# Altium integrated library libNico.IntLib: 48 symbols
Pins are listed as number, name and electrical type; pins without a type are passive.

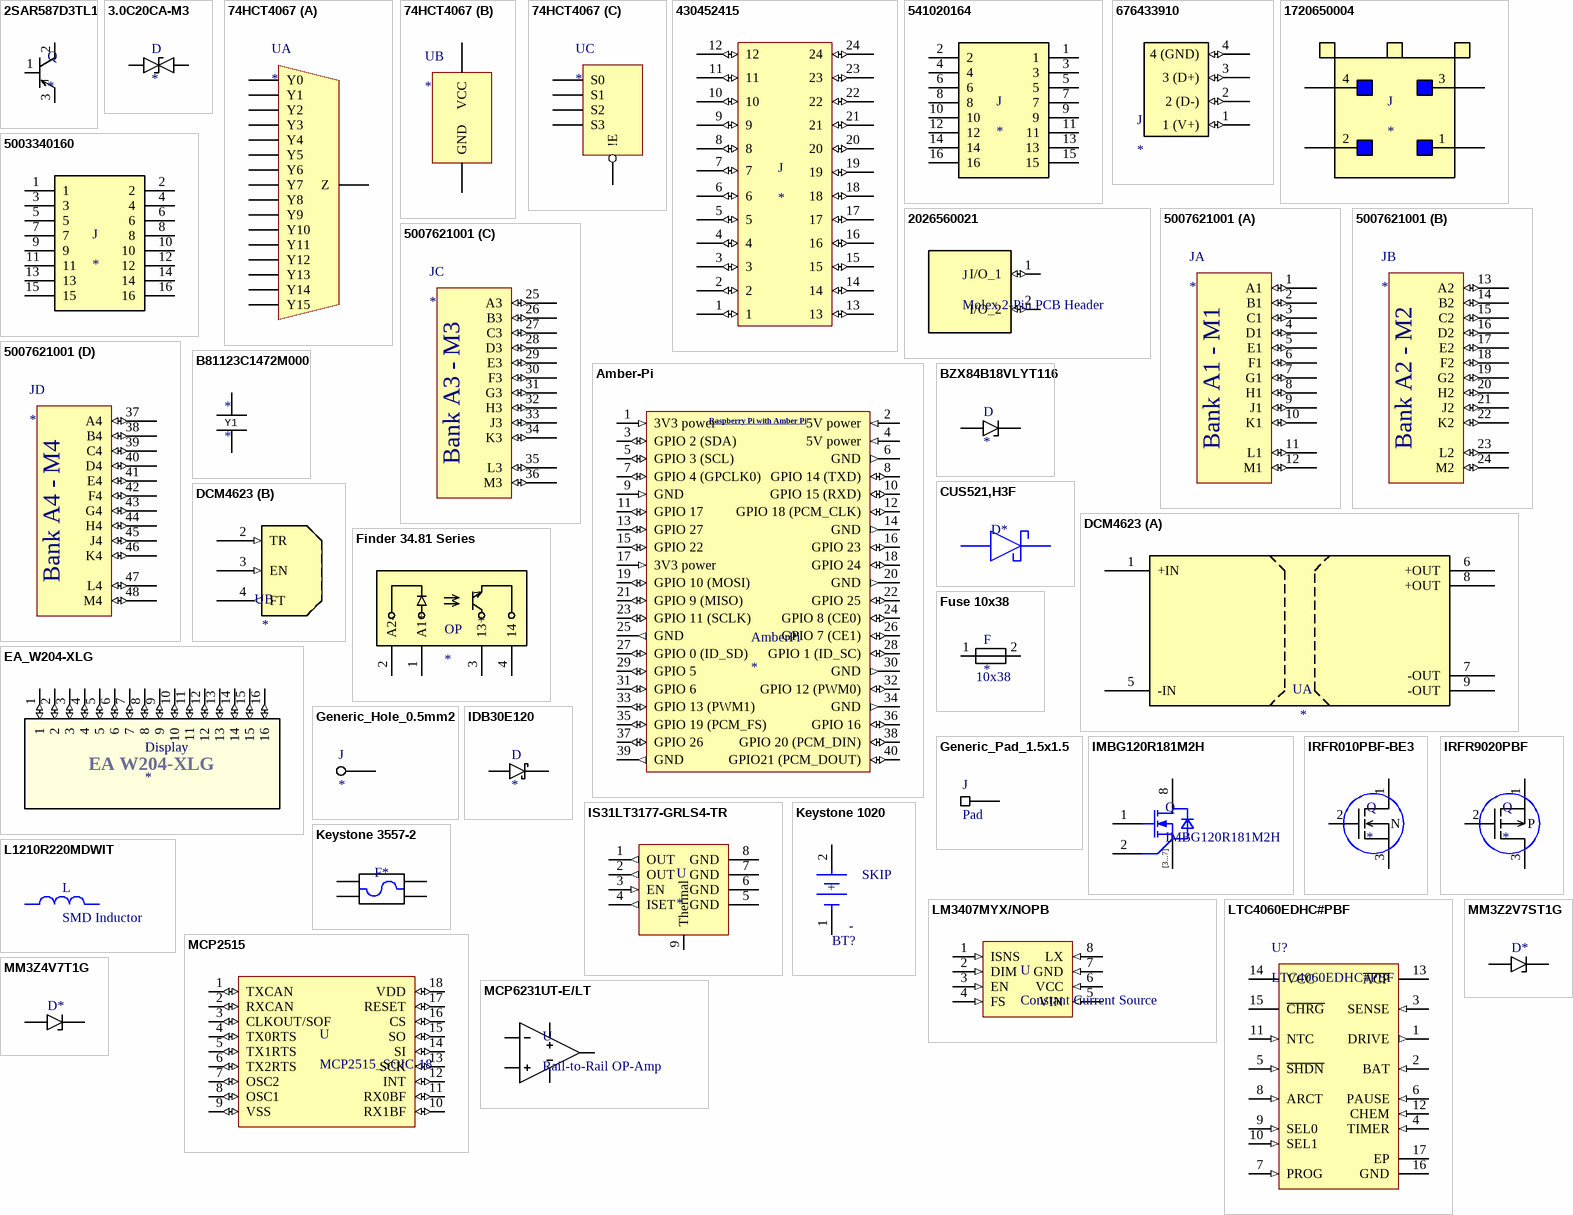
[diagram p0: symbols 2SAR587D3TL1 to MM3Z4V7T1G]

## 2SAR587D3TL1
designator Q
Power Transistor PNP 120V 3A; ComponentLink1Description: Octopart; ComponentLink1URL: https://octopart.com/2sar587d3tl1-rohm-100746648?r=sp
footprint DPAK230P1000X230-3M (D-PAK, 3-Pads, Body 6,30x6,76mm (max), IPC Low Density)
pins: 1 B, 2 C, 3 E

## 3.0C20CA-M3
designator D
Vishay 3.0C20CA-M3 / Bidirect. TVS, 20V, 3kW; ComponentLink1Description: Octopart; ComponentLink1URL: https://octopart.com/3.0c20ca-m3%2Fh-vishay-133857999?r=sp
footprint 3.0C20CA-M3 (DO-214AB-2)
pins: 1, 2

## 74HCT4067
designator U
Nexperia 74HCT4067 / 16-channel analog multiplexer; ComponentLink1Description: Octopart; ComponentLink1URL: https://octopart.com/74hct4067pw%2C118-nexperia-78737616?r=sp
footprint 74HCT4067PW (TSSOP-24)
part A pins: 1 Z, 2 Y7, 3 Y6, 4 Y5, 5 Y4, 6 Y3, 7 Y2, 8 Y1, 9 Y0, 16 Y15, 17 Y14, 18 Y13, 19 Y12, 20 Y11, 21 Y10, 22 Y9, 23 Y8
part B pins: 12 GND, 24 VCC
part C pins: 10 S0, 11 S1, 13 S3, 14 S2, 15 !E

## 430452415
designator J
Micro-Fit 3.0 Vertical Header, 3.00mm Pitch, Dual Row, 24 Circuits, with PCB Press-fit Metal Retention Clip, Tin, Glow-Wire Capable, Black, Tape and Reel; ComponentLink1Description: Molex; ComponentLink1URL: https://www.molex.com/molex/products/part-detail/pcb_headers/0430452415
footprint 430452415 (Micro-Fit 3.0 Vertical Header, 3.00mm Pitch, Dual Row, 24 Circuits, with PCB Press-fit Metal Retention Clip, Tin, Glow-Wire Capable, Black, Tape and Reel)
pins: 1 (io), 2 (io), 3 (io), 4 (io), 5 (io), 6 (io), 7 (io), 8 (io), 9 (io), 10 (io), 11 (io), 12 (io), 13 (io), 14 (io), 15 (io), 16 (io), 17 (io), 18 (io), 19 (io), 20 (io), 21 (io), 22 (io), 23 (io), 24 (io)

## 541020164
designator J
0.50mm Pitch SlimStack Receptacle, Surface Mount, Dual Row, Vertical, 2.50mm Stacking Height, Gold Plating with Nickel Barrier, 16 Circuits
footprint 541020164 (0.50mm Pitch SlimStack Receptacle, Surface Mount, Dual Row, Vertical, 2.50mm Stacking Height, Gold Plating with Nickel Barrier, 16 Circuits)
pins: 1, 2, 3, 4, 5, 6, 7, 8, 9, 10, 11, 12, 13, 14, 15, 16

## 676433910
designator J
Universal Serial Bus (USB) Shielded I/O Receptacle, Right-Angle, Type A, High-Temperature White Nylon, Gold (Au) Flash, PCB Thickness 1.60mm, without Upper Flange, for IR Reflow Process, Lead-Free; ComponentLink1Description: Molex; ComponentLink1URL: https://www.molex.com/molex/products/part-detail/io_connectors/0676433910
footprint 676433910 (Universal Serial Bus (USB) Shielded I/O Receptacle, Right-Angle, Type A, High-Temperature White Nylon, Gold (Au) Flash, PCB Thickness 1.60mm, without Upper Flange, for IR Reflow Process, Lead-Free)
pins: 1 1 (V+) (io), 2 2 (D-) (io), 3 3 (D+) (io), 4 4 (GND) (io)

## 1720650004
designator J
Molex Mega-Fit Vertical Header, Through Hole, 5.70mm Pitch, Dual Row, 4 Circuits, 0.38µm Gold (Au) Plating, Glow-Wire Capable, Black
footprint 1720650004 (Molex Mega-Fit Vertical Header, Through Hole, 5.70mm Pitch, Dual Row, 4 Circuits, 0.38µm Gold (Au) Plating, Glow-Wire Capable, Black)
pins: 1, 2, 3, 4

## 2026560021
designator J, comment Molex 2-Pin PCB Header
Molex Pico-EZmate and Pico-EZmate Slim Wire-to-Board PCB Header
footprint 2026560021 (Molex Pico-EZmate and Pico-EZmate Slim Wire-to-Board PCB Header)
pins: 1 I/O_1 (io), 2 I/O_2 (io)

## 5003340160
designator J
0.50mm Pitch SlimStack Plug, Surface Mount, Dual Row, Vertical, 2.50mm Stack Height, 16 Circuits
footprint 5003340160 (0.50mm Pitch SlimStack Plug, Surface Mount, Dual Row, Vertical, 2.50mm Stack Height, 16 Circuits)
pins: 1, 2, 3, 4, 5, 6, 7, 8, 9, 10, 11, 12, 13, 14, 15, 16

## 5007621001
designator J
Molex 5007621001 / 2.50mm, 3.50mm, 3.70mm CMC Header, Sealed, Right-Angle, 48 Circuits, Black; ComponentLink1Description: Molex; ComponentLink1URL: https://www.molex.com/en-us/products/part-detail/5007621001
footprint 5007621001 (2.50mm, 3.50mm, 3.70mm CMC Header, Sealed, Right-Angle, 48 Circuits, Black)
part A pins: 1 A1 (io), 2 B1 (io), 3 C1 (io), 4 D1 (io), 5 E1 (io), 6 F1 (io), 7 G1 (io), 8 H1 (io), 9 J1 (io), 10 K1 (io), 11 L1 (io), 12 M1 (io)
part B pins: 13 A2 (io), 14 B2 (io), 15 C2 (io), 16 D2 (io), 17 E2 (io), 18 F2 (io), 19 G2 (io), 20 H2 (io), 21 J2 (io), 22 K2 (io), 23 L2 (io), 24 M2 (io)
part C pins: 25 A3 (io), 26 B3 (io), 27 C3 (io), 28 D3 (io), 29 E3 (io), 30 F3 (io), 31 G3 (io), 32 H3 (io), 33 J3 (io), 34 K3 (io), 35 L3 (io), 36 M3 (io)
part D pins: 37 A4 (io), 38 B4 (io), 39 C4 (io), 40 D4 (io), 41 E4 (io), 42 F4 (io), 43 G4 (io), 44 H4 (io), 45 J4 (io), 46 K4 (io), 47 L4 (io), 48 M4 (io)
part A text: Bank A1 - M1
part B text: Bank A2 - M2
part C text: Bank A3 - M3
part D text: Bank A4 - M4

## Amber-Pi
designator AmberPi
RasPi with Amber-Pi, ONLY FOOTPRINT; ComponentLink1Description: WE-Online; ComponentLink1URL: https://www.we-online.de/katalog/de/AMBER_PI_EVAL-KITS#2609017281001
footprint AMBERPI (WE Elektronik AmberPi Kit flipped)
pins: 1 3V3 power (in), 2 5V power (in), 3 GPIO 2 (SDA) (io), 4 5V power (in), 5 GPIO 3 (SCL) (io), 6 GND (out), 7 GPIO 4 (GPCLK0) (io), 8 GPIO 14 (TXD) (io), 9 GND (in), 10 GPIO 15 (RXD) (io), 11 GPIO 17 (io), 12 GPIO 18 (PCM_CLK) (io), 13 GPIO 27 (io), 14 GND (out), 15 GPIO 22 (io), 16 GPIO 23 (io), 17 3V3 power (in), 18 GPIO 24 (io), 19 GPIO 10 (MOSI) (io), 20 GND (out), 21 GPIO 9 (MISO) (io), 22 GPIO 25 (io), 23 GPIO 11 (SCLK) (io), 24 GPIO 8 (CE0) (io), 25 GND (out), 26 GPIO 7 (CE1) (io), 27 GPIO 0 (ID_SD) (io), 28 GPIO 1 (ID_SC) (io), 29 GPIO 5 (io), 30 GND (out), 31 GPIO 6 (io), 32 GPIO 12 (PWM0) (io), 33 GPIO 13 (PWM1) (io), 34 GND (out), 35 GPIO 19 (PCM_FS) (io), 36 GPIO 16 (io), 37 GPIO 26 (io), 38 GPIO 20 (PCM_DIN) (io), 39 GND (out), 40 GPIO21 (PCM_DOUT) (io)
text: Raspberry Pi with Amber Pi

## B81123C1472M000
designator *
EPCOS/TDK B81123C1472M000 / Class Y1 Capacitor; Capacitance: 4.7 nF; DC Voltage: 3 kV; AC Voltage: 500 VAC; Safety Class: Y1
footprint B81123C1472M000 (Class Y1 Capacitor)
pins: 1, 2

## BZX84B18VLYT116
designator D
ROHM BZX84B18VLYT116 / Z-Diode, 18V; Vr: 18V; ComponentLink1Description: Octopart; ComponentLink1URL: https://octopart.com/bzx84b18vlyt116-rohm-111546287?r=sp
footprint SOT-23-3 (SOT23, 3-Leads, Body 2,90x2,40mm, Pitch 0,95mm, IPC Medium Density)
pins: 1 A, 3 C

## CUS521,H3F
designator D*  (value not drawn)
Toshiba CUS521,H3F / Shottky-Diode / Forward: 390mV, Reverse: 30V; ComponentLink1Description: Octopart; ComponentLink1URL: https://octopart.com/cus521%2Ch3f-toshiba-26712463?r=sp
footprint SOD-323-2 (SODFL, 2-Leads, Body 1,30x2,50mm, IPC Low Density)
pins: 1C C, 2A A

## DCM4623
designator U
VICOR DCM® DC-DC Converter Module; ComponentLink1Description: VICOR; ComponentLink1URL: https://www.vicorpower.com/dc-dc/isolated-regulated/dcm; Model: *
footprint DCM4623 (Vicor DCM4623 Module)
part A pins: 1 +IN (power), 5 -IN, 6 +OUT (power), 7 -OUT, 8 +OUT (power), 9 -OUT
part B pins: 2 TR (in), 3 EN (in), 4 FT (out)

## EA_W204-XLG
designator Display
Display
footprint EA_W204-XLG (Display)
pins: 1 (io), 2 (io), 3 (io), 4 (io), 5 (io), 6 (io), 7 (io), 8 (io), 9 (io), 10 (io), 11 (io), 12 (io), 13 (io), 14 (io), 15 (io), 16 (io)
text: EA W204-XLG

## Finder 34.81 Series
designator OP
Opto-Isolator / Finder 34.81 series; ComponentLink1Description: Finder; ComponentLink1URL: https://www.findernet.com/de/deutschland/series/serie-34-schmales-steck-printrelais-emr-oder-ssr-01-2-6a/
footprint Finder 34.81 Series (Opto-Isolator)
pins: 1 A1+, 2 A2-, 3 13+, 4 14

## Fuse 10x38
designator F  Format: 10x38
Voltage: *; Current: *
footprint Fuse Holder 10x38
pins: 1, 2

## Generic_Hole_0.5mm2
designator J
Hole 0.5 mm2
footprint Generic_Hole_0.5mm2 (0.5 mm2 Hole)
pins: H Hole

## Generic_Pad_1.5x1.5
designator J, comment Pad
Pad 1.5mm x 1.5mm
footprint Generic_Pad_1.5x1.5 (1.5mm x 1.5mm Pad)
pins: P Pad

## IDB30E120
designator D
Infineon IDB30E120 / 1200V, 30A @ 1.7V; ComponentLink1Description: Octopart; ComponentLink1URL: https://octopart.com/idb30e120atma1-infineon-21386241?r=sp; Vf: 1.7V
footprint Infineon IDB30E120 (D2-PAK, 3-Pads, Body 7,82x8,51mm (max), IPC Medium Density)
pins: 2 C, 3 A

## IMBG120R181M2H
designator Q
Infineon IMBG120R181M2HXTMA1 / CoolSiC, 1200V, 15A, 181.4mOhm; ComponentLink1Description: Octopart; ComponentLink1URL: https://octopart.com/imbg120r181m2hxtma1-infineon-143244067?r=sp; Package Reference: PG-TO263-7-12
footprint TO127P1500X470-8N-2-V1 (TO,1.27mm pitch;7 pin,15.00mm L X 9.25mm W X 4.70mm H body)
pins: 1 GATE, 2 SENSE, 3 SOURCE1, 4 SOURCE2, 5 SOURCE3, 6 SOURCE4, 7 SOURCE5, 8 DRAIN
text: [3...7]

## IRFR010PBF-BE3
designator Q
Vishay IRFR010PBF-BE3 / N-Channel MOSFET, 50V, 8.2A; ComponentLink1Description: Octopart; ComponentLink1URL: https://octopart.com/irfr010pbf-be3-vishay-113152001?r=sp
footprint DPAK-(TO-252) (D-PAK, 3-Pads, Body 6,47x6,54mm (max), IPC Low Density); pin to pad 1>2_Tab 2>1_Dot
pins: 1 D, 2 G, 3 S
text: N

## IRFR9020PBF
designator Q
Vishay IRFR9020PBF / P-Channel MOSFET, 50V, 9.9A; ComponentLink1Description: Octopart; ComponentLink1URL: https://octopart.com/irfr9020pbf-vishay-39555158?r=sp
footprint DPAK-(TO-252) (D-PAK, 3-Pads, Body 6,47x6,54mm (max), IPC Low Density); pin to pad 1>3 2>1_Dot 3>2_Tab
pins: 1 S, 2 G, 3 D
text: P

## IS31LT3177-GRLS4-TR
designator U
LED-Beleuchtungstreiber 10 to 200mA Constant Current LED driver with 1kHz PWM dimming pin, SOP-8-EP (4.9mm x 6.0mm), T&R; ComponentLink1Description: Octopart; ComponentLink1URL: https://octopart.com/is31lt3177-grls4-tr-issi-105847754?r=sp
footprint SOP127P600X170_HS-9M (SOP, 8-Leads, Body 4,90x3,90mm, Pitch 1,27mm, Thermal Pad 2,29x2,29mm, IPC Low Density)
pins: 1 OUT (out), 2 OUT (out), 3 EN (in), 4 ISET (out), 5 GND, 6 GND, 7 GND, 8 GND, 9 Thermal

## Keystone 1020
designator BT?  Voltage: SKIP
BATT HOLDER BATTERY AAA SMD; Part Number: 1020; Manufacturer: Keystone; helpURL: https://upverter.com/upn/revision/aeadfed39ba6ac98/; ComponentLink2Description: Datasheet; Temperature: -50°C to +145°C; Package: BT_HLDR_SMT; Supplier 2: Mouser; Price: 1.62889830371; Supplier 1: Digi-Key; ComponentLink1URL: https://upverter.com/upn/revision/aeadfed39ba6ac98/; Supplier Part Number 2: 534-1020; Supplier Part Number 1: 36-1020-ND; ComponentLink1Description: Upverter; ComponentLink2URL: http://www.keyelco.com/product-pdf.cfm?p=934; RoHS: TRUE; Mouser Part Number: 534-1020; Temperature Range High: +145°C; Digikey Description: BATT HOLDER BATTERY AAA SMD; Digikey Part Number: 36-1020-ND; Lead Free: yes; Temperature Range Low: -50°C
footprint Keystone_1020_0
pins: 1 -, 2 +

## Keystone 3557-2
designator F*  (value not drawn)
Keystone 3557-2 / Fuse Holder; ComponentLink1Description: Octopart; ComponentLink1URL: https://octopart.com/3557-2-keystone-850400?r=sp
footprint Keystone 3557-2 (Fuse Holder)
pins: I1, I2, O1, O2

## L1210R220MDWIT
designator L, comment SMD Inductor
Ind Chip High Current Unshielded Wirewound 22uH 20% 100kHz Ferrite 780mA 1210 T/R; ComponentLink1Description: Octopart; ComponentLink1URL: https://octopart.com/l1210r220mdwit-kemet-8043287?r=sp
footprint CHIP_1210_3225 (Chip Inductor, 2-Leads, Body 3,20x2,50mm, IPC Low Density)
pins: 1, 2

## LM3407MYX/NOPB
designator U, comment Constant Current Source
LM3407 350-mA, Constant Current Output Floating Buck Switching Converter / for High-Power LEDs; ComponentLink1Description: Octopart; ComponentLink1URL: https://octopart.com/lm3407myx%2Fnopb-texas+instruments-24846104?r=sp
footprint TSOP65P490X110_HS-9M (TSOP, 8-Leads, Body 3,00x3,00mm, Pitch 0,65mm, Thermal Pad 2,00x1,88mm, IPC Low Density)
pins: 1 ISNS (in), 2 DIM (in), 3 EN (in), 4 FS (in), 5 VIN (in), 6 VCC (in), 7 GND (in), 8 LX (in)

## LTC4060EDHC#PBF
designator U?
Standalone Linear NiMH / NiCd Fast Battery Charger, 4.5 to 10 V Vin, 16-pin SON (DHC-16), -40 to 85 degC, Pb-Free; Manufacturer: Linear Technology; Float Voltage: Adj; Vin Min(V): 4.5; Max Charge Current(A): 2; Vin Max(V): 10; Number of Cells: 1 to 4; Battery Chemistry: NiCd, NiMH, Lead Acid; PackageVersion: Jun-10; PartNumber: LTC4060EDHC#PBF; ComponentLink3Description: Package Specification; ComponentLink1URL: http://www.linear.com/; ComponentLink1Description: Manufacturer URL; ComponentLink2URL: http://cds.linear.com/docs/en/datasheet/4060f.pdf; Code_JEDEC: MO-229; Type of Charger: Linear; ComponentLink2Description: Datasheet; Mounting Technology: Surface Mount; PackageReference: DHC-16; PackageDescription: 16-Pin Plastic DFN, Body 5 x 3 mm, Pitch 0.5 mm; ComponentLink3URL: http://cds.linear.com/docs/en/packaging/DFN_16_05-08-1706.pdf; RoHS: TRUE
footprint LT-DHC-16_V (SON, 16-Leads, Body 5x3mm, Pitch 0.5mm, Thermal Pad 4.4X1.65mm)
pins: 1 DRIVE (out) "Base Drive Output for the External PNP Pass Transistor. Provides a controlled sink current that drives the base of the PNP. This pin has current limit protection for the LTC4060.", 2 BAT (in) "Battery Voltage Sense Input Pin. The LTC4060 uses the voltage on this pin to monitor battery voltage and control the battery current during charging. An internal resistor divider is connected to this pin which is (See Datasheet)", 3 SENSE (in) "Charge Current Sense Node Input. Current from VCC passes through the internal current sense resistor and reappears at the SENSE pin to supply current to the external PNP emitter. The PNP collector provides charge current (See Datasheet)", 4 TIMER (in) "Charge Timer Input. A capacitor connected between TIMER and GND along with a resistor connected from PROG to GND programs the charge cycle timing limits.", 5 ~{SHDN} (in) "Active Low Shutdown Control Logic Input. When pulled low, charging stops and the LTC4060 supply current is minimized.", 6 PAUSE (in) "Pause Enable Logic Input. The charger can be paused, turning off the charge current, disabling termination and stopping the timer when this pin is high. A low level will resume the charging process.", 7 PROG (in) "Charge Current Programming Input. Provides a virtual reference of 1.5V for an external resistor (RPROG) tied between this pin and GND that programs the battery charge current. The fast charge current will be 930 times the (See Datasheet)", 8 ARCT (in) "Autorecharge Threshold Programming Input. When the average cell voltage falls below this threshold, charging is reinitiated. The voltage on this pin is conveniently derived by using two series PROG pin resistors and (See Datasheet)", 9 SEL0 (in) "Number of Cells Selection Logic Input. For single cell, connect both pins to GND. For two cells, connect SEL1 to GND and SEL0 to VCC. For three cells, SEL1 connects to VCC and SEL0 to GND. For four cells, connect both pins (See Datasheet)", 10 SEL1 (in) "Number of Cells Selection Logic Input. For single cell, connect both pins to GND. For two cells, connect SEL1 to GND and SEL0 to VCC. For three cells, SEL1 connects to VCC and SEL0 to GND. For four cells, connect both pins (See Datasheet)", 11 NTC (in) "Battery Temperature Input. An external NTC thermistor network may be connected to NTC to provide temperature-based charge qualification. Connecting NTC to GND inhibits this function.", 12 CHEM (in) "Battery Chemistry Selection Logic Input. When connected to a high level NiCd fast charge -deltaV termination parameters are used. A low level selects NiMH parameters.", 13 ~{ACP} (hiz) "Open-Drain Power Supply Status Output. When VCC is greater than the undervoltage lockout threshold, the A\C\P\ pin will pull to ground. Otherwise the pin is high impedance. This output is capable of driving an LED.", 14 VCC (power) "Power Input. This pin can be bypassed to ground with a capacitance of 1uF.", 15 ~{CHRG} (hiz) "Open-Drain Charge Indicator Status Output. The LTC4060 indicates it is providing charge to the battery by driving this pin to GND. If charging is paused or suspended due to abnormal battery temperature, the pin remains (See Datasheet)", 16 GND (power) "Ground. This pin provides a ground for the internal voltage reference and other circuits. All voltage thresholds are referenced to this pin.", 17 EP (power) "Thermal Connection. Internally connected to GND. Solder to PCB ground for optimum thermal performance."

## MCP2515
designator U, comment MCP2515_SOIC-18
Stand-Alone CAN Controller with SPI Interface; ComponentLink1Description: Microchip; ComponentLink1URL: https://www.microchip.com/wwwproducts/en/en010406
footprint SOIC127P1030X265-18N (SOIC, 18-Leads, Body 11,55x7,50mm, Pitch 1,27mm, IPC Medium Density)
pins: 1 TXCAN (io), 2 RXCAN (io), 3 CLKOUT/SOF (io), 4 TX0RTS (io), 5 TX1RTS (io), 6 TX2RTS (io), 7 OSC2 (io), 8 OSC1 (io), 9 VSS (io), 10 RX1BF (io), 11 RX0BF (io), 12 INT (io), 13 SCK (io), 14 SI (io), 15 SO (io), 16 CS (io), 17 RESET (io), 18 VDD (io)

## MCP6231UT-E/LT
designator U, comment Rail-to-Rail OP-Amp
MCP6231 Series 6 V 300 kHz Rail-to-Rail I/O Operational Amplifier - SC-70-5; ComponentLink1Description: Octopart; ComponentLink1URL: https://octopart.com/mcp6231ut-e%2Flt-microchip-419329?r=sp
footprint 5-Lead_SOT_SC-70 (SOT23, 5-Leads, Body 2,00x2,10mm, Pitch 0,65mm, IPC Medium Density)
pins: 1 Vin+, 2 VSS, 3 Vin-, 4 Vout, 5 VDD

## MM3Z2V7ST1G
designator D*  (value not drawn)
onsemi MM3Z2V7ST1G / Z-Diode, 2,7V; ComponentLink1Description: Octopart; ComponentLink1URL: https://octopart.com/mm3z4v7t1g-onsemi-331144?r=sp
footprint SOD-323-2 (SODFL, 2-Leads, Body 1,30x2,50mm, IPC Low Density)
pins: 1C C, 2A A

## MM3Z4V7T1G
designator D*  (value not drawn)
onsemi MM3Z4V7T1G / Z-Diode, 4,7V; ComponentLink1Description: Octopart; ComponentLink1URL: https://octopart.com/mm3z4v7t1g-onsemi-331144?r=sp
footprint SOD-323-2 (SODFL, 2-Leads, Body 1,30x2,50mm, IPC Low Density)
pins: 1C C, 2A A

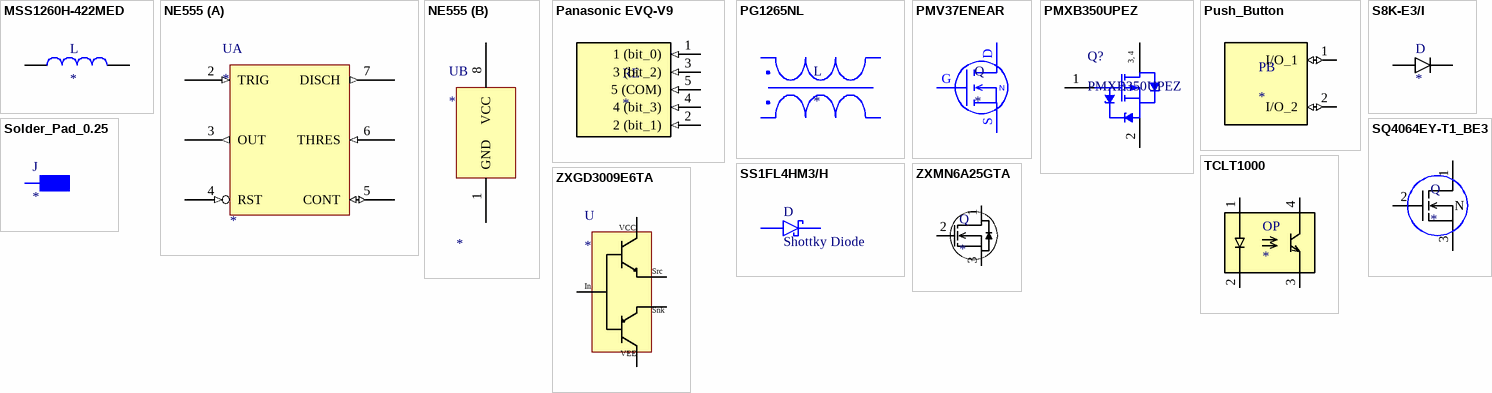
[diagram p1: symbols MSS1260H-422MED to ZXMN6A25GTA]

## MSS1260H-422MED
designator L
Coilcraft MSS1260H-422MED / Shielded Inductor, 4.2uH, 11mOhm, 5A; DCR: 11m; ComponentLink1Description: Octopart; ComponentLink1URL: https://octopart.com/mss1260h-422med-coilcraft-119644693?r=sp; Value: 4.2uH; Irms: 5A
footprint Coilcraft MSS1260H-422MED (Coil)
pins: 1, 2

## NE555
designator U
Single Precision Timer; Value: *
footprint NE555PWR (TSSOP-8)
part A pins: 2 TRIG (in), 3 OUT (out), 4 RST (in), 5 CONT (io), 6 THRES (in), 7 DISCH (out)
part B pins: 1 GND, 8 VCC

## Panasonic EVQ-V9
designator RE
Rotary Encoder
footprint Panasonic EVQ-V9 (Rotary Encoder)
pins: 1 1 (bit_0) (in), 2 2 (bit_1) (in), 3 3 (bit_2) (in), 4 4 (bit_3) (in), 5 5 (COM) (in)

## PG1265NL
designator L
Pulse PG1265NL / Common Mode Choke; Inductance: 380 uH; Tolerance: 30 %; Rated Current: 20 A; Dielectric Strength: 380 V (RMS)
footprint PG1265NL (Pulse PG1265NL / Common Mode Choke)
pins: 1, 2, 3, 4

## PMV37ENEAR
designator Q
MOSFET 60V N-CHANNEL; ComponentLink1Description: Octopart; ComponentLink1URL: https://octopart.com/pmv37enear-nexperia-102117885?r=sp
footprint SOT95P230X110-3M (SOT23, 3-Leads, Body 2,90x2,30mm, Pitch 0,95mm, IPC Low Density); pin to pad D>3 G>1 S>2
pins: D 11, G 10, S 12
text: N

## PMXB350UPEZ
designator Q?
P-Channel Trench MOSFET, -20 V, -1.2 A, -55 to 150 degC, 4-Pin SOT1215; Manufacturer: NXP Semiconductors; Ciss [typ] (pF): 116; Coss [typ] (pF): 16.5; VGSth [typ] (V): -0.7; Channel Type: P; ComponentLink1Description: Manufacturer URL; ComponentLink2Description: Datasheet; DatasheetVersion: Rev. 2; Mounting Technology: Surface Mount; ComponentLink3URL: http://www.nxp.com/documents/outline_drawing/sot1215_po.pdf; ComponentLink1URL: http://www.nxp.com/; VDS [max] (V): -20; ID [max] (A): -1.2; PackageVersion: 13-03-06, 03/2013; ComponentLink3Description: Package Specification; PartNumber: PMXB350UPEZ; PackageDescription: 3-Pin Small Outline No-Lead, Body 1.1 x 1 mm, Pitch 0.75 mm; ComponentLink2URL: http://www.nxp.com/documents/data_sheet/PMXB350UPE.pdf; PackageReference: SOT1215
footprint NXP-SOT1215_M (SON, 3-Leads, Body 1.15x1.05mm, Pitch 0.75mm, Thermal Pad 0.91x0.2mm, IPC Low Density)
footprint NXP-SOT1215_N (SON, 3-Leads, Body 1.15x1.05mm, Pitch 0.75mm, Thermal Pad 0.91x0.2mm, IPC Medium Density)
footprint NXP-SOT1215_L (SON, 3-Leads, Body 1.15x1.05mm, Pitch 0.75mm, Thermal Pad 0.91x0.2mm, IPC High Density)
pins: 1 G "gate", 2 S "source", 3 D "drain", 4 D "drain"
text: 3, 4

## Push_Button
designator PB
footprint Push_Button
pins: 1 I/O_1 (io), 2 I/O_2 (io)

## S8K-E3/I
designator D
Vishay S8K-E3/I / Diode, 950mV, 8A, 800V; Vf: 0.95V; ComponentLink1Description: Octopart; ComponentLink1URL: https://octopart.com/s8k-e3%2Fi-vishay+semiconductor-137406611?r=sp
footprint S8K-E3/I (DO-214AB-2)
pins: 1 C, 2 A

## Solder_Pad_0.25
designator J
Solder Pad for 0.25mm2 Wire
footprint Solder_Pad_0.25 (Solder Pad for 0.25mm2 Wire)
pins: S

## SQ4064EY-T1_BE3
designator Q
Vishay SQ4064EY-T1_BE3N-Channel MOSFET, 60V, 12A; ComponentLink1Description: Octopart; ComponentLink1URL: https://octopart.com/sq4064ey-t1_be3-vishay-109067888?r=sp
footprint SOIC8_SQ4064EY-T1_BE3 (SOIC, 8-Leads, Body 4,90x3,90mm, Pitch 1,27mm, IPC Low Density)
pins: 1 D, 2 G, 3 S
text: N

## SS1FL4HM3/H
designator D, comment Shottky Diode
Surface-Mount Schottky Barrier Rectifier / 40V, 1A; ComponentLink1Description: Octopart; ComponentLink1URL: https://octopart.com/ss1fl4hm3%2Fh-vishay-73870157?r=sp
footprint SODFL127P600-8N
pins: 1C C, 2A A

## TCLT1000
designator OP
Opto-Isolator / Vishay TLCT100 series / 600V, 5mA, V_ISO= 5 kV (RMS); ComponentLink1Description: Octopart; ComponentLink1URL: https://octopart.com/tclt1000-vishay-55401777?r=sp
footprint SOP-4L
pins: 1 DA, 2 DC, 3 TE, 4 TC

## ZXGD3009E6TA
designator U
Diodes Inc. ZXGD3009E6TA / MOSFET Gate Driver, 1Ch, 1A; ComponentLink1Description: Octopart; ComponentLink1URL: https://octopart.com/zxgd3009e6ta-diodes+inc.-49477954?r=sp
footprint ZXGD3009E6TA (SOT26, SOT23-6)
pins: 1 VCC, 2 In, 3 VEE, 4 Snk, 6 Src

## ZXMN6A25GTA
designator Q
Diodes Inc. ZXMN6A25GTA / N-Channel MOSFET, 60V, 6.7A; ComponentLink1Description: Octopart; ComponentLink1URL: https://octopart.com/zxmn6a25gta-diodes+inc.-7519510?r=sp
footprint ZXMN6A25GTA (SOT-223)
pins: 1 D, 2 G, 3 S